# Altium integrated library Sensor - Current.IntLib: 21 symbols
Pins are listed as number, name and electrical type; pins without a type are passive.

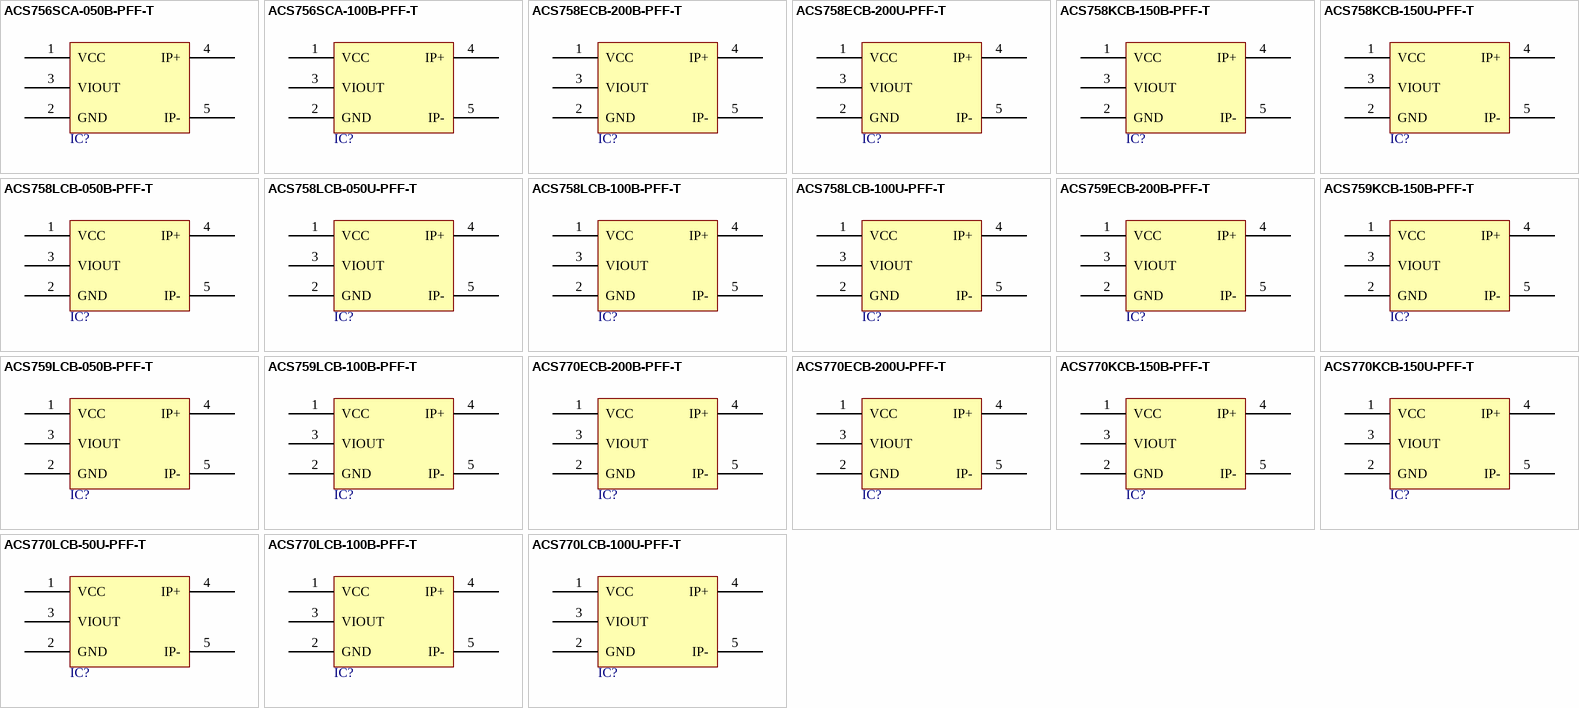
[diagram p0: symbols ACS756SCA-050B-PFF-T to ACS770LCB-100U-PFF-T]

## ACS756SCA-050B-PFF-T
designator IC?  (value not drawn)
SENSOR CURRENT HALL 50A AC/DC; Manufacturer: Allegro MicroSystems, LLC; Sensor Type: Hall Effect, Open Loop; Number of Channels: 1; Output: Ratiometric, Voltage; Sensitivity: 40mV/A; Frequency: DC ~ 120kHz; Linearity: 1%; Accuracy: 5%; Voltage - Supply: 3 V ~ 5.5 V; Response Time: 3us; Current - Supply (Max): 14mA; Polarization: Bidirectional; Part Number: ACS756SCA-050B-PFF-T; PartId: 15701; Supplier 1: Digi-Key; Supplier Part Number 1: 620-1237-ND; ComponentLink1Description: Datasheet; ComponentLink1URL: http://www.allegromicro.com/en/Products/Part_Numbers/0756/0756.pdf; ComponentLink2Description: Digi-Key Listing; ComponentLink2URL: https://www.digikey.com/product-detail/en/allegro-microsystems-llc/ACS756SCA-050B-PFF-T/620-1237-ND/1829840; Price: 7.82; Type: Bidirectional; Operating Temperature: -20C ~ 85C; Device Package: 5-CA Formed Leads; Mounting Type: Through Hole; For Measuring: AC/DC; Current - Sensing: 50A
footprint ALLEGRO PFF
pins: 1 VCC, 2 GND, 3 VIOUT, 4 IP+, 5 IP-

## ACS756SCA-100B-PFF-T
designator IC?  (value not drawn)
SENSOR CURRENT HALL 100A AC/DC; Manufacturer: Allegro MicroSystems, LLC; Sensor Type: Hall Effect, Open Loop; Number of Channels: 1; Output: Ratiometric, Voltage; Sensitivity: 20mV/A; Frequency: DC ~ 120kHz; Linearity: 1.75%; Accuracy: 7%; Voltage - Supply: 3 V ~ 5.5 V; Response Time: 3us; Current - Supply (Max): 14mA; Polarization: Bidirectional; Part Number: ACS756SCA-100B-PFF-T; PartId: 15681; Supplier 1: Digi-Key; Supplier Part Number 1: 620-1238-ND; ComponentLink1Description: Datasheet; ComponentLink1URL: http://www.allegromicro.com/en/Products/Part_Numbers/0756/0756.pdf; ComponentLink2Description: Digi-Key Listing; ComponentLink2URL: https://www.digikey.com/product-detail/en/allegro-microsystems-llc/ACS756SCA-100B-PFF-T/620-1238-ND/1829841; Price: 7.82; Type: Bidirectional; Operating Temperature: -20C ~ 85C; Device Package: 5-CA Formed Leads; Mounting Type: Through Hole; For Measuring: AC/DC; Current - Sensing: 100A
footprint ALLEGRO PFF
pins: 1 VCC, 2 GND, 3 VIOUT, 4 IP+, 5 IP-

## ACS758ECB-200B-PFF-T
designator IC?  (value not drawn)
SENSOR CURRENT HALL 200A AC/DC; Manufacturer: Allegro MicroSystems, LLC; Sensor Type: Hall Effect, Open Loop; Number of Channels: 1; Output: Ratiometric, Voltage; Sensitivity: 10mV/A; Frequency: DC ~ 120kHz; Linearity: 1%; Accuracy: 1.2%; Voltage - Supply: 3 V ~ 5.5 V; Response Time: 4us; Current - Supply (Max): 13.5mA; Polarization: Bidirectional; Part Number: ACS758ECB-200B-PFF-T; PartId: 15689; Supplier 1: Digi-Key; Supplier Part Number 1: 620-1323-ND; ComponentLink1Description: Datasheet; ComponentLink1URL: http://www.allegromicro.com/en/Products/Part_Numbers/0758/0758.pdf; ComponentLink2Description: Digi-Key Listing; ComponentLink2URL: https://www.digikey.com/product-detail/en/allegro-microsystems-llc/ACS758ECB-200B-PFF-T/620-1323-ND/2042748; Price: 7.98; Type: Bidirectional; Operating Temperature: -40C ~ 85C; Device Package: 5-CB Formed Leads, PFF; Mounting Type: Through Hole; For Measuring: AC/DC; Current - Sensing: 200A
footprint ALLEGRO PFF
pins: 1 VCC, 2 GND, 3 VIOUT, 4 IP+, 5 IP-

## ACS758ECB-200U-PFF-T
designator IC?  (value not drawn)
SENSOR CURRENT HALL 200A DC; Manufacturer: Allegro MicroSystems, LLC; Sensor Type: Hall Effect, Open Loop; Number of Channels: 1; Output: Ratiometric, Voltage; Sensitivity: 20mV/A; Frequency: DC ~ 120kHz; Linearity: 1%; Accuracy: 1.2%; Voltage - Supply: 3 V ~ 5.5 V; Response Time: 4us; Current - Supply (Max): 13.5mA; Polarization: Unidirectional; Part Number: ACS758ECB-200U-PFF-T; PartId: 15692; Supplier 1: Digi-Key; Supplier Part Number 1: 620-1356-ND; ComponentLink1Description: Datasheet; ComponentLink1URL: http://www.allegromicro.com/en/Products/Part_Numbers/0758/0758.pdf; ComponentLink2Description: Digi-Key Listing; ComponentLink2URL: https://www.digikey.com/product-detail/en/allegro-microsystems-llc/ACS758ECB-200U-PFF-T/620-1356-ND/2415201; Price: 7.98; Type: Unidirectional; Operating Temperature: -40C ~ 85C; Device Package: 5-CB Formed Leads, PFF; Mounting Type: Through Hole; For Measuring: DC; Current - Sensing: 200A
footprint ALLEGRO PFF
pins: 1 VCC, 2 GND, 3 VIOUT, 4 IP+, 5 IP-

## ACS758KCB-150B-PFF-T
designator IC?  (value not drawn)
SENSOR CURRENT HALL 150A AC/DC; Manufacturer: Allegro MicroSystems, LLC; Sensor Type: Hall Effect, Open Loop; Number of Channels: 1; Output: Ratiometric, Voltage; Sensitivity: 13.3mV/A; Frequency: DC ~ 120kHz; Linearity: 1%; Accuracy: 1.6%; Voltage - Supply: 3 V ~ 5.5 V; Response Time: 4us; Current - Supply (Max): 13.5mA; Polarization: Bidirectional; Part Number: ACS758KCB-150B-PFF-T; PartId: 15683; Supplier 1: Digi-Key; Supplier Part Number 1: 620-1322-ND; ComponentLink1Description: Datasheet; ComponentLink1URL: http://www.allegromicro.com/en/Products/Part_Numbers/0758/0758.pdf; ComponentLink2Description: Digi-Key Listing; ComponentLink2URL: https://www.digikey.com/product-detail/en/allegro-microsystems-llc/ACS758KCB-150B-PFF-T/620-1322-ND/2042747; Price: 7.98; Type: Bidirectional; Operating Temperature: -40C ~ 125C; Device Package: 5-CB Formed Leads, PFF; Mounting Type: Through Hole; For Measuring: AC/DC; Current - Sensing: 150A
footprint ALLEGRO PFF
pins: 1 VCC, 2 GND, 3 VIOUT, 4 IP+, 5 IP-

## ACS758KCB-150U-PFF-T
designator IC?  (value not drawn)
SENSOR CURRENT HALL 150A DC; Manufacturer: Allegro MicroSystems, LLC; Sensor Type: Hall Effect, Open Loop; Number of Channels: 1; Output: Ratiometric, Voltage; Sensitivity: 26.7mV/A; Frequency: DC ~ 120kHz; Linearity: 1%; Accuracy: 1.6%; Voltage - Supply: 3 V ~ 5.5 V; Response Time: 4us; Current - Supply (Max): 13.5mA; Polarization: Unidirectional; Part Number: ACS758KCB-150U-PFF-T; PartId: 15685; Supplier 1: Digi-Key; Supplier Part Number 1: 620-1355-ND; ComponentLink1Description: Datasheet; ComponentLink1URL: http://www.allegromicro.com/en/Products/Part_Numbers/0758/0758.pdf; ComponentLink2Description: Digi-Key Listing; ComponentLink2URL: https://www.digikey.com/product-detail/en/allegro-microsystems-llc/ACS758KCB-150U-PFF-T/620-1355-ND/2415200; Price: 7.98; Type: Unidirectional; Operating Temperature: -40C ~ 125C; Device Package: 5-CB Formed Leads, PFF; Mounting Type: Through Hole; For Measuring: DC; Current - Sensing: 150A
footprint ALLEGRO PFF
pins: 1 VCC, 2 GND, 3 VIOUT, 4 IP+, 5 IP-

## ACS758LCB-050B-PFF-T
designator IC?  (value not drawn)
SENSOR CURRENT HALL 50A AC/DC; Manufacturer: Allegro MicroSystems, LLC; Sensor Type: Hall Effect, Open Loop; Number of Channels: 1; Output: Ratiometric, Voltage; Sensitivity: 40mV/A; Frequency: DC ~ 120kHz; Linearity: 1%; Accuracy: 2%; Voltage - Supply: 3 V ~ 5.5 V; Response Time: 4us; Current - Supply (Max): 13.5mA; Polarization: Bidirectional; Part Number: ACS758LCB-050B-PFF-T; PartId: 15682; Supplier 1: Digi-Key; Supplier Part Number 1: 620-1320-ND; ComponentLink1Description: Datasheet; ComponentLink1URL: http://www.allegromicro.com/en/Products/Part_Numbers/0758/0758.pdf; ComponentLink2Description: Digi-Key Listing; ComponentLink2URL: https://www.digikey.com/product-detail/en/allegro-microsystems-llc/ACS758LCB-050B-PFF-T/620-1320-ND/2042745; Price: 7.98; Type: Bidirectional; Operating Temperature: -40C ~ 150C; Device Package: 5-CB Formed Leads, PFF; Mounting Type: Through Hole; For Measuring: AC/DC; Current - Sensing: 50A
footprint ALLEGRO PFF
pins: 1 VCC, 2 GND, 3 VIOUT, 4 IP+, 5 IP-

## ACS758LCB-050U-PFF-T
designator IC?  (value not drawn)
SENSOR CURRENT HALL 50A DC; Manufacturer: Allegro MicroSystems, LLC; Sensor Type: Hall Effect, Open Loop; Number of Channels: 1; Output: Ratiometric, Voltage; Sensitivity: 60mV/A; Frequency: DC ~ 120kHz; Linearity: 1%; Accuracy: 2%; Voltage - Supply: 3 V ~ 5.5 V; Response Time: 4us; Current - Supply (Max): 13.5mA; Polarization: Unidirectional; Part Number: ACS758LCB-050U-PFF-T; PartId: 15687; Supplier 1: Digi-Key; Supplier Part Number 1: 620-1353-ND; ComponentLink1Description: Datasheet; ComponentLink1URL: http://www.allegromicro.com/en/Products/Part_Numbers/0758/0758.pdf; ComponentLink2Description: Digi-Key Listing; ComponentLink2URL: https://www.digikey.com/product-detail/en/allegro-microsystems-llc/ACS758LCB-050U-PFF-T/620-1353-ND/2415198; Price: 7.98; Type: Unidirectional; Operating Temperature: -40C ~ 150C; Device Package: 5-CB Formed Leads, PFF; Mounting Type: Through Hole; For Measuring: DC; Current - Sensing: 50A
footprint ALLEGRO PFF
pins: 1 VCC, 2 GND, 3 VIOUT, 4 IP+, 5 IP-

## ACS758LCB-100B-PFF-T
designator IC?  (value not drawn)
SENSOR CURRENT HALL 100A AC/DC; Manufacturer: Allegro MicroSystems, LLC; Sensor Type: Hall Effect, Open Loop; Number of Channels: 1; Output: Ratiometric, Voltage; Sensitivity: 20mV/A; Frequency: DC ~ 120kHz; Linearity: 1.25%; Accuracy: 2.4%; Voltage - Supply: 3 V ~ 5.5 V; Response Time: 4us; Current - Supply (Max): 13.5mA; Polarization: Bidirectional; Part Number: ACS758LCB-100B-PFF-T; PartId: 15684; Supplier 1: Digi-Key; Supplier Part Number 1: 620-1321-ND; ComponentLink1Description: Datasheet; ComponentLink1URL: http://www.allegromicro.com/en/Products/Part_Numbers/0758/0758.pdf; ComponentLink2Description: Digi-Key Listing; ComponentLink2URL: https://www.digikey.com/product-detail/en/allegro-microsystems-llc/ACS758LCB-100B-PFF-T/620-1321-ND/2042746; Price: 7.98; Type: Bidirectional; Operating Temperature: -40C ~ 150C; Device Package: 5-CB Formed Leads, PFF; Mounting Type: Through Hole; For Measuring: AC/DC; Current - Sensing: 100A
footprint ALLEGRO PFF
pins: 1 VCC, 2 GND, 3 VIOUT, 4 IP+, 5 IP-

## ACS758LCB-100U-PFF-T
designator IC?  (value not drawn)
SENSOR CURRENT HALL 100A DC; Manufacturer: Allegro MicroSystems, LLC; Sensor Type: Hall Effect, Open Loop; Number of Channels: 1; Output: Ratiometric, Voltage; Sensitivity: 40mV/A; Frequency: DC ~ 120kHz; Linearity: 1.25%; Accuracy: 2.4%; Voltage - Supply: 3 V ~ 5.5 V; Response Time: 4us; Current - Supply (Max): 13.5mA; Polarization: Unidirectional; Part Number: ACS758LCB-100U-PFF-T; PartId: 15688; Supplier 1: Digi-Key; Supplier Part Number 1: 620-1354-ND; ComponentLink1Description: Datasheet; ComponentLink1URL: http://www.allegromicro.com/en/Products/Part_Numbers/0758/0758.pdf; ComponentLink2Description: Digi-Key Listing; ComponentLink2URL: https://www.digikey.com/product-detail/en/allegro-microsystems-llc/ACS758LCB-100U-PFF-T/620-1354-ND/2415199; Price: 7.98; Type: Unidirectional; Operating Temperature: -40C ~ 150C; Device Package: 5-CB Formed Leads, PFF; Mounting Type: Through Hole; For Measuring: DC; Current - Sensing: 100A
footprint ALLEGRO PFF
pins: 1 VCC, 2 GND, 3 VIOUT, 4 IP+, 5 IP-

## ACS759ECB-200B-PFF-T
designator IC?  (value not drawn)
SENSOR CURRENT HALL 200A AC/DC; Manufacturer: Allegro MicroSystems, LLC; Sensor Type: Hall Effect, Open Loop; Number of Channels: 1; Output: Ratiometric, Voltage; Sensitivity: 8.8mV/A; Frequency: DC ~ 120kHz; Linearity: 1%; Accuracy: 4%; Voltage - Supply: 3 V ~ 3.6 V; Response Time: 4us; Current - Supply (Max): 13.5mA; Polarization: Bidirectional; Part Number: ACS759ECB-200B-PFF-T; PartId: 15686; Supplier 1: Digi-Key; Supplier Part Number 1: 620-1466-5-ND; ComponentLink1Description: Datasheet; ComponentLink1URL: http://www.allegromicro.com/en/Products/Current-Sensor-ICs/Fifty-To-Two-Hundred-Amp-Integrated-Conductor-Sensor-ICs/~/media/Files/Datasheets/ACS759-Datasheet.pdf; ComponentLink2Description: Digi-Key Listing; ComponentLink2URL: https://www.digikey.com/product-detail/en/allegro-microsystems-llc/ACS759ECB-200B-PFF-T/620-1466-5-ND/3131286; Price: 7.98; Type: Bidirectional; Operating Temperature: -40C ~ 85C; Device Package: 5-CB Formed Leads, PFF; Mounting Type: Through Hole; For Measuring: AC/DC; Current - Sensing: 200A
footprint ALLEGRO PFF
pins: 1 VCC, 2 GND, 3 VIOUT, 4 IP+, 5 IP-

## ACS759KCB-150B-PFF-T
designator IC?  (value not drawn)
SENSOR CURRENT HALL 150A AC/DC; Manufacturer: Allegro MicroSystems, LLC; Sensor Type: Hall Effect, Open Loop; Number of Channels: 1; Output: Ratiometric, Voltage; Sensitivity: 8.8mV/A; Frequency: DC ~ 120kHz; Linearity: 1%; Accuracy: 4%; Voltage - Supply: 3 V ~ 3.6 V; Response Time: 4us; Current - Supply (Max): 13.5mA; Polarization: Bidirectional; Part Number: ACS759KCB-150B-PFF-T; PartId: 15693; Supplier 1: Digi-Key; Supplier Part Number 1: 620-1464-5-ND; ComponentLink1Description: Datasheet; ComponentLink1URL: http://www.allegromicro.com/en/Products/Current-Sensor-ICs/Fifty-To-Two-Hundred-Amp-Integrated-Conductor-Sensor-ICs/~/media/Files/Datasheets/ACS759-Datasheet.pdf; ComponentLink2Description: Digi-Key Listing; ComponentLink2URL: https://www.digikey.com/product-detail/en/allegro-microsystems-llc/ACS759KCB-150B-PFF-T/620-1464-5-ND/3131288; Price: 7.98; Type: Bidirectional; Operating Temperature: -40C ~ 125C; Device Package: 5-CB Formed Leads, PFF; Mounting Type: Through Hole; For Measuring: AC/DC; Current - Sensing: 150A
footprint ALLEGRO PFF
pins: 1 VCC, 2 GND, 3 VIOUT, 4 IP+, 5 IP-

## ACS759LCB-050B-PFF-T
designator IC?  (value not drawn)
SENSOR CURRENT HALL 50A AC/DC; Manufacturer: Allegro MicroSystems, LLC; Sensor Type: Hall Effect, Open Loop; Number of Channels: 1; Output: Ratiometric, Voltage; Sensitivity: 26.4mV/A; Frequency: DC ~ 120kHz; Linearity: 1%; Accuracy: 3.5%; Voltage - Supply: 3 V ~ 3.6 V; Response Time: 4us; Current - Supply (Max): 13.5mA; Polarization: Bidirectional; Part Number: ACS759LCB-050B-PFF-T; PartId: 15691; Supplier 1: Digi-Key; Supplier Part Number 1: 620-1467-5-ND; ComponentLink1Description: Datasheet; ComponentLink1URL: http://www.allegromicro.com/en/Products/Current-Sensor-ICs/Fifty-To-Two-Hundred-Amp-Integrated-Conductor-Sensor-ICs/~/media/Files/Datasheets/ACS759-Datasheet.pdf; ComponentLink2Description: Digi-Key Listing; ComponentLink2URL: https://www.digikey.com/product-detail/en/allegro-microsystems-llc/ACS759LCB-050B-PFF-T/620-1467-5-ND/3131285; Price: 7.98; Type: Bidirectional; Operating Temperature: -40C ~ 150C; Device Package: 5-CB Formed Leads, PFF; Mounting Type: Through Hole; For Measuring: AC/DC; Current - Sensing: 50A
footprint ALLEGRO PFF
pins: 1 VCC, 2 GND, 3 VIOUT, 4 IP+, 5 IP-

## ACS759LCB-100B-PFF-T
designator IC?  (value not drawn)
SENSOR CURRENT HALL 100A AC/DC; Manufacturer: Allegro MicroSystems, LLC; Sensor Type: Hall Effect, Open Loop; Number of Channels: 1; Output: Ratiometric, Voltage; Sensitivity: 13.2mV/A; Frequency: DC ~ 120kHz; Linearity: 1%; Accuracy: 4%; Voltage - Supply: 3 V ~ 3.6 V; Response Time: 4us; Current - Supply (Max): 13.5mA; Polarization: Bidirectional; Part Number: ACS759LCB-100B-PFF-T; PartId: 15690; Supplier 1: Digi-Key; Supplier Part Number 1: 620-1465-5-ND; ComponentLink1Description: Datasheet; ComponentLink1URL: http://www.allegromicro.com/en/Products/Current-Sensor-ICs/Fifty-To-Two-Hundred-Amp-Integrated-Conductor-Sensor-ICs/~/media/Files/Datasheets/ACS759-Datasheet.pdf; ComponentLink2Description: Digi-Key Listing; ComponentLink2URL: https://www.digikey.com/product-detail/en/allegro-microsystems-llc/ACS759LCB-100B-PFF-T/620-1465-5-ND/3131287; Price: 7.98; Type: Bidirectional; Operating Temperature: -40C ~ 150C; Device Package: 5-CB Formed Leads, PFF; Mounting Type: Through Hole; For Measuring: AC/DC; Current - Sensing: 100A
footprint ALLEGRO PFF
pins: 1 VCC, 2 GND, 3 VIOUT, 4 IP+, 5 IP-

## ACS770ECB-200B-PFF-T
designator IC?  (value not drawn)
SENSOR CURRENT HALL 200A AC/DC; Manufacturer: Allegro MicroSystems, LLC; Sensor Type: Hall Effect, Open Loop; Number of Channels: 1; Output: Ratiometric, Voltage; Sensitivity: 10mV/A; Frequency: DC ~ 120kHz; Linearity: 1%; Accuracy: 0.6%; Voltage - Supply: 5V; Response Time: 4.6us; Current - Supply (Max): 15mA; Polarization: Bidirectional; Part Number: ACS770ECB-200B-PFF-T; PartId: 15699; Supplier 1: Digi-Key; Supplier Part Number 1: 620-1538-5-ND; ComponentLink1Description: Datasheet; ComponentLink1URL: http://www.allegromicro.com/~/media/Files/Datasheets/ACS770-Datasheet.pdf; ComponentLink2Description: Digi-Key Listing; ComponentLink2URL: https://www.digikey.com/product-detail/en/allegro-microsystems-llc/ACS770ECB-200B-PFF-T/620-1538-5-ND/4473977; Price: 8.07; Type: Bidirectional; Operating Temperature: -40C ~ 85C; Device Package: 5-CB Formed Leads, PFF; Mounting Type: Through Hole; For Measuring: AC/DC; Current - Sensing: 200A
footprint ALLEGRO PFF
pins: 1 VCC, 2 GND, 3 VIOUT, 4 IP+, 5 IP-

## ACS770ECB-200U-PFF-T
designator IC?  (value not drawn)
SENSOR CURRENT HALL 200A DC; Manufacturer: Allegro MicroSystems, LLC; Sensor Type: Hall Effect, Open Loop; Number of Channels: 1; Output: Ratiometric, Voltage; Sensitivity: 20mV/A; Frequency: DC ~ 120kHz; Linearity: 1%; Accuracy: 0.6%; Voltage - Supply: 5V; Response Time: 4.6us; Current - Supply (Max): 15mA; Polarization: Unidirectional; Part Number: ACS770ECB-200U-PFF-T; PartId: 15700; Supplier 1: Digi-Key; Supplier Part Number 1: 620-1537-5-ND; ComponentLink1Description: Datasheet; ComponentLink1URL: http://www.allegromicro.com/~/media/Files/Datasheets/ACS770-Datasheet.pdf; ComponentLink2Description: Digi-Key Listing; ComponentLink2URL: https://www.digikey.com/product-detail/en/allegro-microsystems-llc/ACS770ECB-200U-PFF-T/620-1537-5-ND/4473976; Price: 8.07; Type: Unidirectional; Operating Temperature: -40C ~ 85C; Device Package: 5-CB Formed Leads, PFF; Mounting Type: Through Hole; For Measuring: DC; Current - Sensing: 200A
footprint ALLEGRO PFF
pins: 1 VCC, 2 GND, 3 VIOUT, 4 IP+, 5 IP-

## ACS770KCB-150B-PFF-T
designator IC?  (value not drawn)
SENSOR CURRENT HALL 150A AC/DC; Manufacturer: Allegro MicroSystems, LLC; Sensor Type: Hall Effect, Open Loop; Number of Channels: 1; Output: Ratiometric, Voltage; Sensitivity: 13.3mV/A; Frequency: DC ~ 120kHz; Linearity: 1%; Accuracy: 0.6%; Voltage - Supply: 5V; Response Time: 4.6us; Current - Supply (Max): 15mA; Polarization: Bidirectional; Part Number: ACS770KCB-150B-PFF-T; PartId: 15697; Supplier 1: Digi-Key; Supplier Part Number 1: 620-1540-5-ND; ComponentLink1Description: Datasheet; ComponentLink1URL: http://www.allegromicro.com/~/media/Files/Datasheets/ACS770-Datasheet.pdf; ComponentLink2Description: Digi-Key Listing; ComponentLink2URL: https://www.digikey.com/product-detail/en/allegro-microsystems-llc/ACS770KCB-150B-PFF-T/620-1540-5-ND/4473979; Price: 8.07; Type: Bidirectional; Operating Temperature: -40C ~ 125C; Device Package: 5-CB Formed Leads, PFF; Mounting Type: Through Hole; For Measuring: AC/DC; Current - Sensing: 150A
footprint ALLEGRO PFF
pins: 1 VCC, 2 GND, 3 VIOUT, 4 IP+, 5 IP-

## ACS770KCB-150U-PFF-T
designator IC?  (value not drawn)
SENSOR CURRENT HALL 150A DC; Manufacturer: Allegro MicroSystems, LLC; Sensor Type: Hall Effect, Open Loop; Number of Channels: 1; Output: Ratiometric, Voltage; Sensitivity: 26.7mV/A; Frequency: DC ~ 120kHz; Linearity: 1%; Accuracy: 0.6%; Voltage - Supply: 5V; Response Time: 4.6us; Current - Supply (Max): 15mA; Polarization: Unidirectional; Part Number: ACS770KCB-150U-PFF-T; PartId: 15694; Supplier 1: Digi-Key; Supplier Part Number 1: 620-1539-5-ND; ComponentLink1Description: Datasheet; ComponentLink1URL: http://www.allegromicro.com/~/media/Files/Datasheets/ACS770-Datasheet.pdf; ComponentLink2Description: Digi-Key Listing; ComponentLink2URL: https://www.digikey.com/product-detail/en/allegro-microsystems-llc/ACS770KCB-150U-PFF-T/620-1539-5-ND/4473978; Price: 8.07; Type: Unidirectional; Operating Temperature: -40C ~ 125C; Device Package: 5-CB Formed Leads, PFF; Mounting Type: Through Hole; For Measuring: DC; Current - Sensing: 150A
footprint ALLEGRO PFF
pins: 1 VCC, 2 GND, 3 VIOUT, 4 IP+, 5 IP-

## ACS770LCB-50U-PFF-T
designator IC?  (value not drawn)
SENSOR CURRENT HALL 50A DC; Manufacturer: Allegro MicroSystems, LLC; Sensor Type: Hall Effect, Open Loop; Number of Channels: 1; Output: Ratiometric, Voltage; Sensitivity: 80mV/A; Frequency: DC ~ 120kHz; Linearity: 1%; Accuracy: 0.6%; Voltage - Supply: 5V; Response Time: 4.6us; Current - Supply (Max): 15mA; Polarization: Unidirectional; Part Number: ACS770LCB-50U-PFF-T; PartId: 15698; Supplier 1: Digi-Key; Supplier Part Number 1: 620-1542-5-ND; ComponentLink1Description: Datasheet; ComponentLink1URL: http://www.allegromicro.com/~/media/Files/Datasheets/ACS770-Datasheet.pdf; ComponentLink2Description: Digi-Key Listing; ComponentLink2URL: https://www.digikey.com/product-detail/en/allegro-microsystems-llc/ACS770LCB-50U-PFF-T/620-1542-5-ND/4473981; Price: 8.07; Type: Unidirectional; Operating Temperature: -40C ~ 150C; Device Package: 5-CB Formed Leads, PFF; Mounting Type: Through Hole; For Measuring: DC; Current - Sensing: 50A
footprint ALLEGRO PFF
pins: 1 VCC, 2 GND, 3 VIOUT, 4 IP+, 5 IP-

## ACS770LCB-100B-PFF-T
designator IC?  (value not drawn)
SENSOR CURRENT HALL 100A AC/DC; Manufacturer: Allegro MicroSystems, LLC; Sensor Type: Hall Effect, Open Loop; Number of Channels: 1; Output: Ratiometric, Voltage; Sensitivity: 20mV/A; Frequency: DC ~ 120kHz; Linearity: 1%; Accuracy: 0.6%; Voltage - Supply: 5V; Response Time: 4.6us; Current - Supply (Max): 15mA; Polarization: Bidirectional; Part Number: ACS770LCB-100B-PFF-T; PartId: 15695; Supplier 1: Digi-Key; Supplier Part Number 1: 620-1544-5-ND; ComponentLink1Description: Datasheet; ComponentLink1URL: http://www.allegromicro.com/~/media/Files/Datasheets/ACS770-Datasheet.pdf; ComponentLink2Description: Digi-Key Listing; ComponentLink2URL: https://www.digikey.com/product-detail/en/allegro-microsystems-llc/ACS770LCB-100B-PFF-T/620-1544-5-ND/4473983; Price: 8.07; Type: Bidirectional; Operating Temperature: -40C ~ 150C; Device Package: 5-CB Formed Leads, PFF; Mounting Type: Through Hole; For Measuring: AC/DC; Current - Sensing: 100A
footprint ALLEGRO PFF
pins: 1 VCC, 2 GND, 3 VIOUT, 4 IP+, 5 IP-

## ACS770LCB-100U-PFF-T
designator IC?  (value not drawn)
SENSOR CURRENT HALL 100A DC; Manufacturer: Allegro MicroSystems, LLC; Sensor Type: Hall Effect, Open Loop; Number of Channels: 1; Output: Ratiometric, Voltage; Sensitivity: 40mV/A; Frequency: DC ~ 120kHz; Linearity: 1%; Accuracy: 0.6%; Voltage - Supply: 5V; Response Time: 4.6us; Current - Supply (Max): 15mA; Polarization: Unidirectional; Part Number: ACS770LCB-100U-PFF-T; PartId: 15696; Supplier 1: Digi-Key; Supplier Part Number 1: 620-1543-5-ND; ComponentLink1Description: Datasheet; ComponentLink1URL: http://www.allegromicro.com/~/media/Files/Datasheets/ACS770-Datasheet.pdf; ComponentLink2Description: Digi-Key Listing; ComponentLink2URL: https://www.digikey.com/product-detail/en/allegro-microsystems-llc/ACS770LCB-100U-PFF-T/620-1543-5-ND/4473982; Price: 8.07; Type: Unidirectional; Operating Temperature: -40C ~ 150C; Device Package: 5-CB Formed Leads, PFF; Mounting Type: Through Hole; For Measuring: DC; Current - Sensing: 100A
footprint ALLEGRO PFF
pins: 1 VCC, 2 GND, 3 VIOUT, 4 IP+, 5 IP-